# Altium schematic symbol library Componentes_base.SchLib: 431 symbols (part 2 of 12)
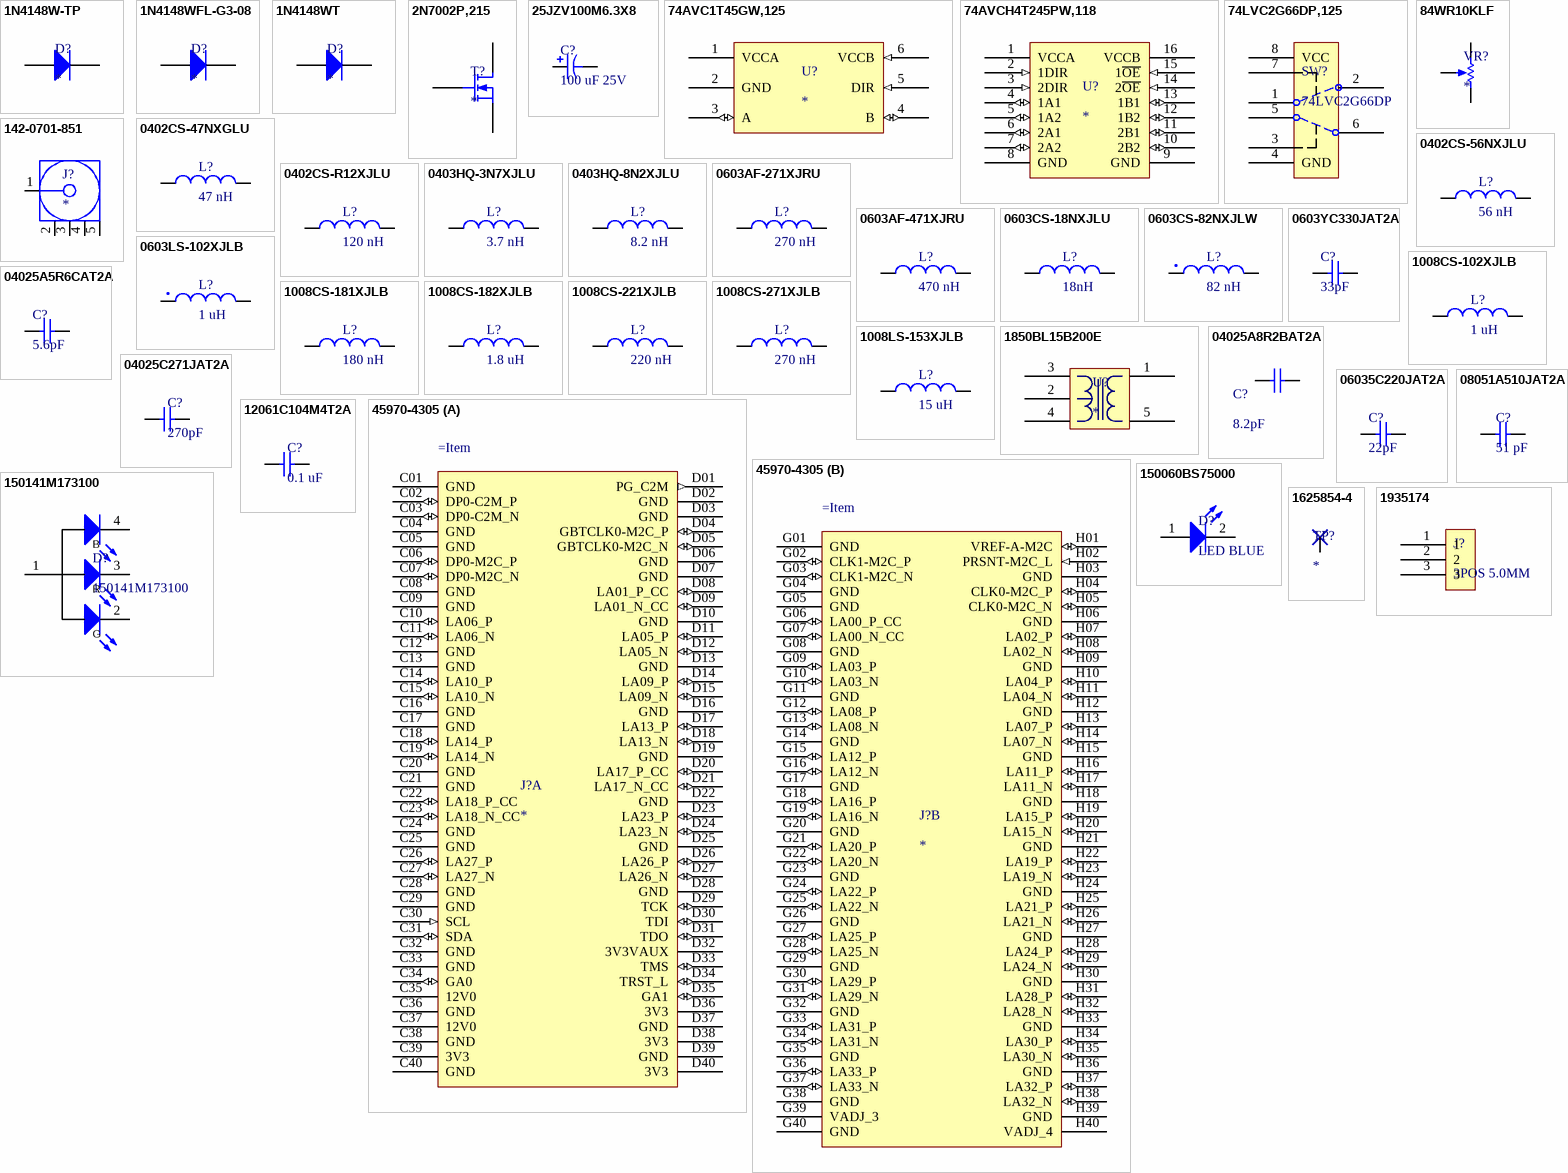
[diagram p15: symbols 1N4148W-TP to 1935174]

## 150141M173100
designator D?
LED RGB CLEAR 1411 SMD; Manufacturer: Wurth Electronics Inc.; Color: Red, Green, Blue (RGB); Configuration: Common Anode; Lens Color: Colorless; Millicandela Rating: 270mcd Red, 950mcd Green, 230mcd Blue; Lens Style/Size: Round with Flat Top, 2.40mm; Voltage - Forward (Vf) (Typ): 2V Red, 3.2V Green, 3.2V Blue; Current - Test: 20mA Red, 20mA Green, 20mA Blue; Viewing Angle: 120°; Wavelength - Dominant: 625nm Red, 520nm Green, 470nm Blue; Wavelength - Peak: 635nm Red, 515nm Green, 465nm Blue; Supplier 1: Digi-Key; Manufacturer Part Number: 150141M173100; RoHS: RoHS Compliant; Category: Optoelectronics; Stock 1: 7809; Pricing 1: 1=0.4, 100=0.3462, 500=0.2867 (EUR); Packaging: Cut Tape (CT); Part Status: Active; Lens Transparency: Clear; Mounting Type: Surface Mount; Features: -; Package / Case: 1411 (3528 Metric); Supplier Device Package: 3528; Size / Dimension: 3.50mm L x 2.80mm W; Height (Max): 2.10mm; ComponentLink1URL: http://katalog.we-online.de/led/datasheet/150141M173100.pdf; ComponentLink1Description: http://katalog.we-online.de/led/datasheet/150141M173100.pdf; Supplier Part Number 1: 732-4998-1-ND
footprint DFN270P320X210-4N (DFN, 4-Leads, Body 2,80x3,20mm, Pitch 2,70mm, IPC Medium Density)
pins: 1 A, 2 C, 3 C, 4 C
text: B; R; G

## 1625854-4
designator TP?
1206 PROBE PAD; Manufacturer: TE Connectivity AMP Connectors; Manufacturer Part Number: 1625854-4; Brand: TE Connectivity / Holsworthy; Supplier 1: Digi-Key; RoHS: RoHS Compliant; Category: Test and Measurement; Stock 1: 5106; Pricing 1: 1=0.19, 25=0.1696, 50=0.1516, 100=0.1338, 250=0.11776, 500=0.1008 (EUR); Packaging: Cut Tape (CT); Type: PC Test Point; Terminal: 0.126" x 0.063" x 0.079" (3.20mm x 1.60mm x 2.00mm); Mounting Type: Surface Mount; Material: -; Color: Natural; ComponentLink1URL: http://www.te.com/commerce/DocumentDelivery/DDEController?Action=srchrtrv&DocNm=1773266&DocType=DS&DocLang=English; ComponentLink1Description: http://www.te.com/commerce/DocumentDelivery/DDEController?Action=srchrtrv&DocNm=1773266&DocType=DS&DocLang=English; Supplier 2: Mouser; Stock 2: 0; Pricing 2: 1=0.202, 25=0.182, 50=0.163, 100=0.144, 250=0.127, 500=0.108, 2000=0.108 (EUR); Package/Case: 1206 (3216 metric); Series: RC; Termination Style: SMD/SMT; Case Code - in: 1206; Case Code - mm: 3216; Standard Pack Qty: 2000; RoHS - Mouser: Y; Minimum Order Quantity: 1; Reeling: True; ComponentLink2URL: http://www.mouser.com/ds/2/418/NG_DS_1773266_A-732548.pdf; ComponentLink2Description: http://www.mouser.com/ds/2/418/NG_DS_1773266_A-732548.pdf; Supplier Part Number 1: A106146CT-ND; Supplier Part Number 2: 279-RCW-0C
footprint TESTPOINT 1206 (1206 TEST POINT)
pins: 1

## 1935174
designator J?, comment 3POS 5.0MM
TERM BLOCK PCB 3POS 5.0MM GREEN; Manufacturer: Phoenix Contact; Manufacturer Part Number: 1935174; AWG size: 26 - 14; Connection cross-section: 2.5mm²; Grid pitch: 5mm; Nominal current: 16A; Number of contacts: 3; Specification: Screw connection; Supplier 1: Digi-Key; Stock 1: 36318; Pricing 1: 1=0.58, 10=0.552, 50=0.528, 100=0.5136, 250=0.48, 500=0.4416, 1000=0.408 (USD); Colour: Green; Type: PT 1,5/ 3-5,0-H; Supplier Part Number 1: 277-1578-ND
footprint 1935174
pins: 1, 2, 3

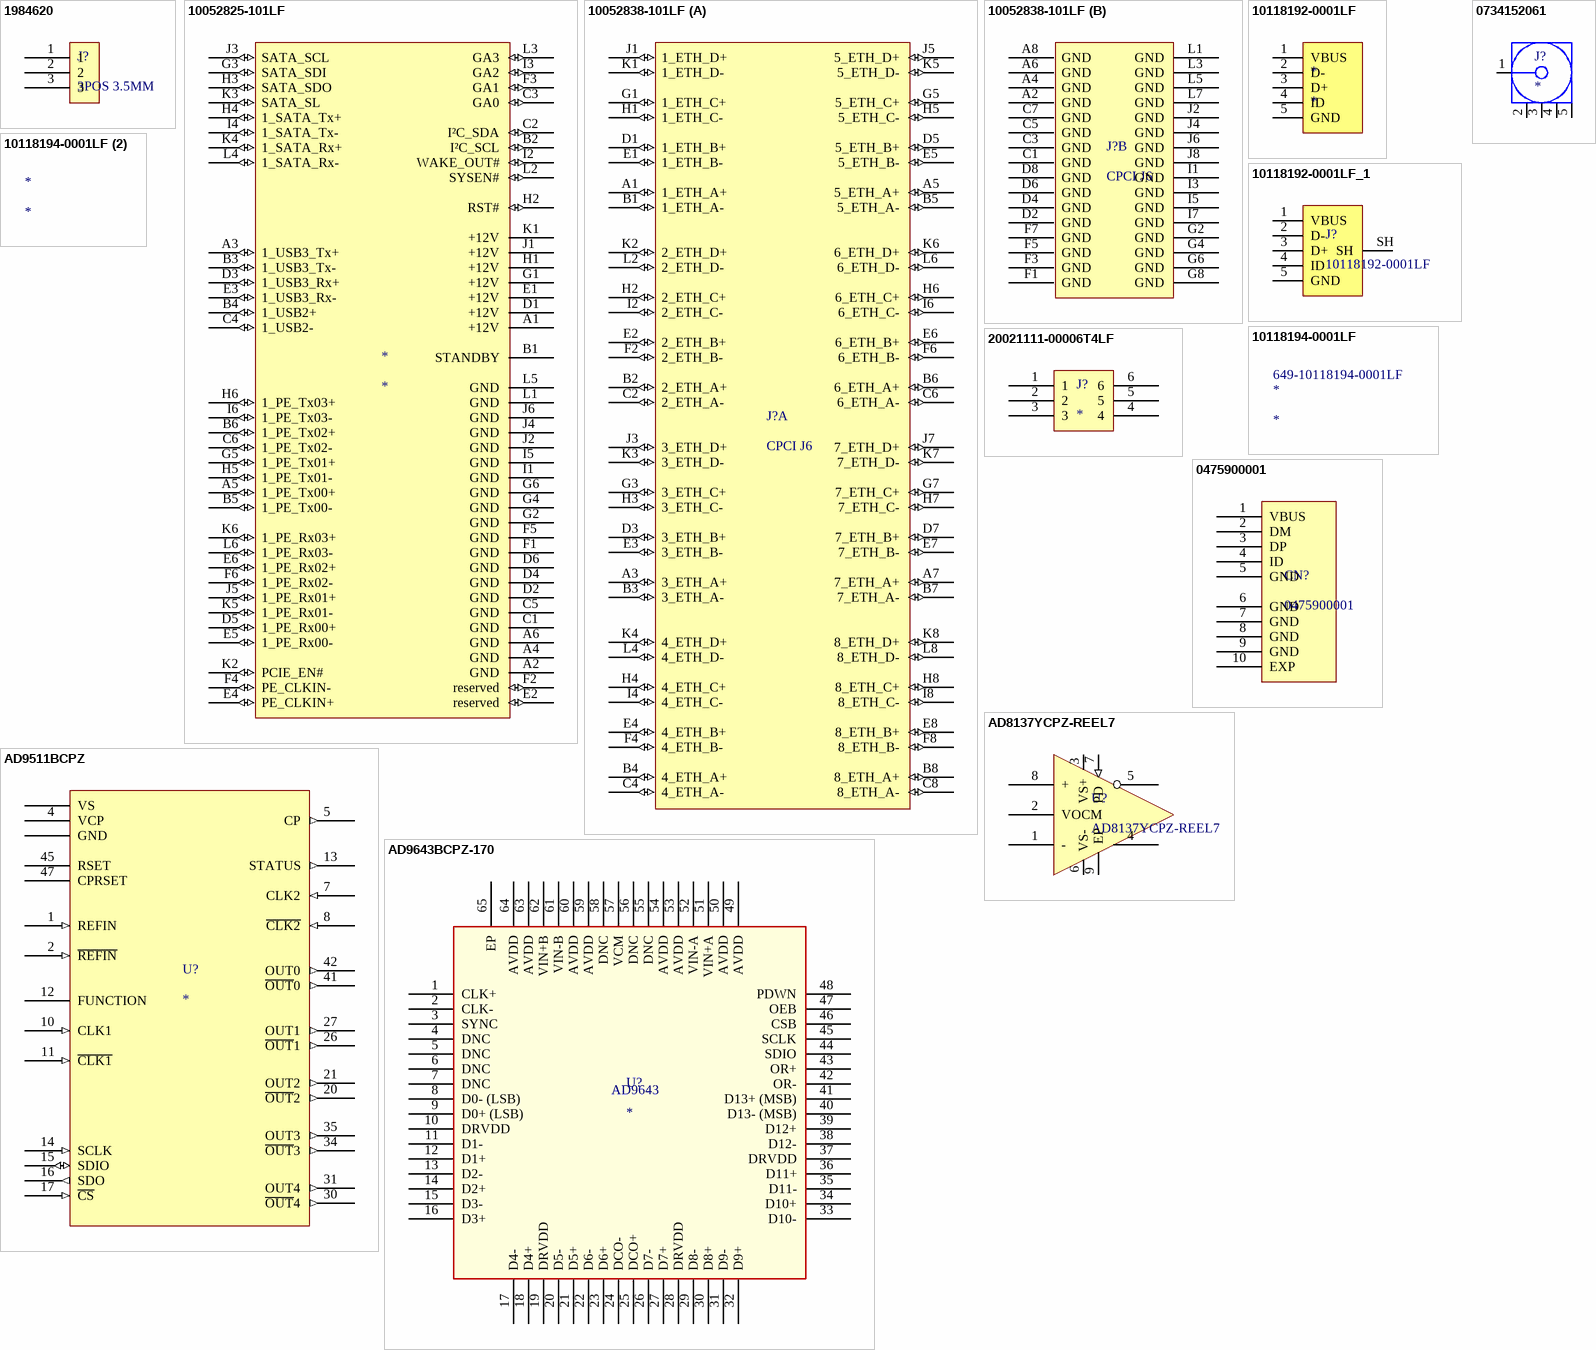
[diagram p1: symbols 1984620 to AD9643BCPZ-170]

## 1984620
designator J?, comment 3POS 3.5MM
CONN TERM BLOCK T/H 3POS 3.5MM; Manufacturer: Phoenix Contact; Manufacturer Part Number: 1984620; CS: 3.50 mm; Pins per row: 3; Stripping length (max.): 5.00 mm; Connection: Screw terminal, Print; Cross section (flexible) (min.): 0.20 mm²; Cross section (inflexible) (min.): 0.14 mm²; Cross section (flexible) (max.): 1.50 mm²; AWG (min.): 26; Connector orientation: Parallel (to the PCB); AWG max.: 16; Wire protection: Yes; Actuation direction: Perpendicular (to the PCB); Nominal current: 17.5 A; Content: 250 pc(s); Nominal voltage: 200 V; Supplier 1: Digi-Key; Stock 1: 15230; Pricing 1: 1=0.68, 10=0.656, 50=0.627, 100=0.6099, 250=0.57, 500=0.5244, 1000=0.4845 (USD); Category: Screw terminal; Features: + wire protector; Number of pins: 3; Series: PT; Cross section (inflexible) (max.): 1.50 mm²; Contact material: Tin plated; Colour: Green; Industrial packaging: Yes; Height: 10.50 mm; Width: 13.70 mm; Manufacturer part #: 1984620; Type: PT 1,5/ 3-3,5-H; Length: 7.60 mm; Supplier Part Number 1: 277-1722-ND
footprint 1984620
pins: 1, 2, 3

## 10052825-101LF
designator *
High Speed/Modular Connectors VS AIRMAX, R/A HDR 72POS, PRESS-FIT; Manufacturer: FCI; Manufacturer Part Number: 10052825-101LF; Mounting Angle: Right; Number of Positions: 72 Position; Pitch: 2 mm; Supplier 1: Mouser; RoHS: RoHS Compliant; Category: High Speed/Modular Connectors; Stock 1: 258; Pricing 1: 1=10.41, 10=9.96, 25=9.06, 50=8.60, 100=8.38, 250=7.33, 500=6.88, 1000=6.08 (EUR); Contact Plating: Gold; Housing Material: Thermoplastic; Packaging: Tube; Product: Headers; Series: AirMax VS; Termination Style: Through Hole; Brand: FCI; Contact Material: Copper Alloy; Standard Pack Qty: 240; Tradename: AIRMAX; RoHS - Mouser: Y; Minimum Order Quantity: 1; Reeling: False; ComponentLink1URL: http://www.mouser.com/ds/2/154/gs-12-239-532901.pdf; ComponentLink1Description: http://www.mouser.com/ds/2/154/gs-12-239-532901.pdf; Supplier Part Number 1: 649-10052825-101LF
footprint 10052825-101LF (FCI AriMax Press-Fit connector 4-Wall CPCI type A, P1)
pins: A1 +12V (power), A2 GND (power), A3 1_USB3_Tx+ (io), A4 GND (power), A5 1_PE_Tx00+ (io), A6 GND (power), B1 STANDBY (power), B2 I²C_SCL (io), B3 1_USB3_Tx- (io), B4 1_USB2+ (io), B5 1_PE_Tx00- (io), B6 1_PE_Tx02+ (io), C1 GND (power), C2 I²C_SDA (io), C3 GA0 (io), C4 1_USB2- (io), C5 GND (power), C6 1_PE_Tx02- (io), D1 +12V (power), D2 GND (power), D3 1_USB3_Rx+ (io), D4 GND (power), D5 1_PE_Rx00+ (io), D6 GND (power), E1 +12V (power), E2 reserved (io), E3 1_USB3_Rx- (io), E4 PE_CLKIN+ (io), E5 1_PE_Rx00- (io), E6 1_PE_Rx02+ (io), F1 GND (power), F2 reserved (io), F3 GA1 (io), F4 PE_CLKIN- (io), F5 GND (power), F6 1_PE_Rx02- (io), G1 +12V (power), G2 GND (power), G3 SATA_SDI (io), G4 GND (power), G5 1_PE_Tx01+ (io), G6 GND (power), H1 +12V (power), H2 RST# (io), H3 SATA_SDO (io), H4 1_SATA_Tx+ (io), H5 1_PE_Tx01- (io), H6 1_PE_Tx03+ (io), I1 GND (power), I2 WAKE_OUT# (io), I3 GA2 (io), I4 1_SATA_Tx- (io), I5 GND (power), I6 1_PE_Tx03- (io), J1 +12V (power), J2 GND (power), J3 SATA_SCL (io), J4 GND (power), J5 1_PE_Rx01+ (io), J6 GND (power), K1 +12V (power), K2 PCIE_EN# (io), K3 SATA_SL (io), K4 1_SATA_Rx+ (io), K5 1_PE_Rx01- (io), K6 1_PE_Rx03+ (io), L1 GND (power), L2 SYSEN# (io), L3 GA3 (io), L4 1_SATA_Rx- (io), L5 GND (power), L6 1_PE_Rx03- (io)

## 10052838-101LF
designator J?, comment CPCI J6
High Speed/Modular Connectors VS AIRMAX, R/A HDR 96POS, PRESS-FIT; Manufacturer: FCI; Manufacturer Part Number: 10052838-101LF; Mounting Angle: Right; Number of Positions: 96 Position; Pitch: 2 mm; Supplier 1: Mouser; RoHS: RoHS Compliant; Category: High Speed/Modular Connectors; Stock 1: 120; Pricing 1: 1=14.56, 10=13.23, 25=12.90, 50=11.91, 100=11.25, 250=10.06, 500=9.40, 1000=8.62 (EUR); Contact Plating: Gold; Housing Material: Thermoplastic; Packaging: Tube; Product: Headers; Series: AirMax VS; Termination Style: Through Hole; Brand: FCI; Contact Material: Copper Alloy; Standard Pack Qty: 180; Tradename: AIRMAX; RoHS - Mouser: Y; Minimum Order Quantity: 1; Reeling: False; ComponentLink1URL: http://www.mouser.com/ds/2/154/gs-12-239-532901.pdf; ComponentLink1Description: http://www.mouser.com/ds/2/154/gs-12-239-532901.pdf; Supplier Part Number 1: 649-10052838-101LF
footprint 10052838-101LF (FCI AriMax Press-Fit connector 4-Wall CPCI type D, P6)
part A pins: A1 1_ETH_A+ (io), A3 3_ETH_A+ (io), A5 5_ETH_A+ (io), A7 7_ETH_A+ (io), B1 1_ETH_A- (io), B2 2_ETH_A+ (io), B3 3_ETH_A- (io), B4 4_ETH_A+ (io), B5 5_ETH_A- (io), B6 6_ETH_A+ (io), B7 7_ETH_A- (io), B8 8_ETH_A+ (io), C2 2_ETH_A- (io), C4 4_ETH_A- (io), C6 6_ETH_A- (io), C8 8_ETH_A- (io), D1 1_ETH_B+ (io), D3 3_ETH_B+ (io), D5 5_ETH_B+ (io), D7 7_ETH_B+ (io), E1 1_ETH_B- (io), E2 2_ETH_B+ (io), E3 3_ETH_B- (io), E4 4_ETH_B+ (io), E5 5_ETH_B- (io), E6 6_ETH_B+ (io), E7 7_ETH_B- (io), E8 8_ETH_B+ (io), F2 2_ETH_B- (io), F4 4_ETH_B- (io), F6 6_ETH_B- (io), F8 8_ETH_B- (io), G1 1_ETH_C+ (io), G3 3_ETH_C+ (io), G5 5_ETH_C+ (io), G7 7_ETH_C+ (io), H1 1_ETH_C- (io), H2 2_ETH_C+ (io), H3 3_ETH_C- (io), H4 4_ETH_C+ (io), H5 5_ETH_C- (io), H6 6_ETH_C+ (io), H7 7_ETH_C- (io), H8 8_ETH_C+ (io), I2 2_ETH_C- (io), I4 4_ETH_C- (io), I6 6_ETH_C- (io), I8 8_ETH_C- (io), J1 1_ETH_D+ (io), J3 3_ETH_D+ (io), J5 5_ETH_D+ (io), J7 7_ETH_D+ (io), K1 1_ETH_D- (io), K2 2_ETH_D+ (io), K3 3_ETH_D- (io), K4 4_ETH_D+ (io), K5 5_ETH_D- (io), K6 6_ETH_D+ (io), K7 7_ETH_D- (io), K8 8_ETH_D+ (io), L2 2_ETH_D- (io), L4 4_ETH_D- (io), L6 6_ETH_D- (io), L8 8_ETH_D- (io)
part B pins: A2 GND (power), A4 GND (power), A6 GND (power), A8 GND (power), C1 GND (power), C3 GND (power), C5 GND (power), C7 GND (power), D2 GND (power), D4 GND (power), D6 GND (power), D8 GND (power), F1 GND (power), F3 GND (power), F5 GND (power), F7 GND (power), G2 GND (power), G4 GND (power), G6 GND (power), G8 GND (power), I1 GND (power), I3 GND (power), I5 GND (power), I7 GND (power), J2 GND (power), J4 GND (power), J6 GND (power), J8 GND (power), L1 GND (power), L3 GND (power), L5 GND (power), L7 GND (power)

## 10118192-0001LF
designator *
USB Connectors 5P MICRO USB TYPE B RECEPTACLE; Manufacturer: FCI; Manufacturer Part Number: 10118192-0001LF; Current Rating: 1.8 A; Gender: Female; Mounting Angle: Right; Number of Contacts: 5 Contact; Insulation Resistance: 1000 MOhms; Supplier 1: Mouser; RoHS: RoHS Compliant; Category: USB Connectors; Stock 1: 31214; Pricing 1: 1=0.429, 10=0.295, 100=0.254, 500=0.242, 1400=0.184, 2800=0.168, 4200=0.160 (EUR); Color: Black; Connector Type: Micro USB Type B Receptacle; Contact Plating: Gold; Operating Temperature Range: - 55 C to + 85 C; Packaging: Reel; Product: Micro USB Type B Connectors; Termination Style: SMD/SMT; Brand: FCI; Contact Material: Copper Alloy; Flammability Rating: UL 94 V-0; Standard: USB 2.0; Standard Pack Qty: 1400; RoHS - Mouser: Y; Minimum Order Quantity: 1; Reeling: True; ComponentLink1URL: http://www.mouser.com/ds/2/154/10118192-793027.pdf; ComponentLink1Description: http://www.mouser.com/ds/2/154/10118192-793027.pdf; Supplier Part Number 1: 649-10118192-0001LF
pins: 1 VBUS (power), 2 D- (power), 3 D+ (power), 4 ID (power), 5 GND (power)

## 10118192-0001LF_1
designator J?, comment 10118192-0001LF
AMPHENOL FCI - 10118192-0001LF - MICRO USB, 2.0 TYPE B, RCPT, SMT; Supplier 1: Farnell; Manufacturer: AMPHENOL FCI; Manufacturer Part Number: 10118192-0001LF; RoHS: YES; Stock 1: 14871; Pricing 1: 1=0,411, 10=0,396, 100=0,278, 500=0,239, 1000=0,197, 2500=0,182, 5000=0,169 (EUR); ComponentLink1URL: http://www.farnell.com/cad/1935767.pdf; ComponentLink1Description: http://www.farnell.com/cad/1935767.pdf; Supplier Part Number 1: 2506568
footprint 10118192-0001LF
pins: 1 VBUS (power), 2 D- (power), 3 D+ (power), 4 ID (power), 5 GND (power), SH (power)

## 10118194-0001LF
designator *  Supplier Part Number 1: 649-10118194-0001LF
USB Connectors 5P MICRO USB TYPE B RCPT W/ REAR PEGS; Manufacturer: FCI; Manufacturer Part Number: 10118194-0001LF; Connector Type: Micro USB Type B receptacle; Current Rating: 1.8 A; Gender: Female; Mounting Angle: Right; Number of Contacts: 5 Contact; Insulation Resistance: 1000 MOhms; Supplier 1: Mouser; RoHS: RoHS Compliant; Category: USB Connectors; Stock 1: 33577; Pricing 1: 1=0.429, 10=0.295, 100=0.254, 500=0.242, 1200=0.184, 2400=0.168, 4800=0.160 (EUR); Color: Black; Contact Plating: Gold; Operating Temperature Range: - 55 C to + 85 C; Packaging: Reel; Product: Micro USB Type B Connectors; Termination Style: SMD/SMT; Brand: FCI; Contact Material: Copper Alloy; Flammability Rating: UL 94 V-0; Standard: USB 2.0; Standard Pack Qty: 1200; RoHS - Mouser: Y; Minimum Order Quantity: 1; Reeling: True; ComponentLink1URL: http://www.mouser.com/ds/2/154/10118194AC-197217.pdf; ComponentLink1Description: http://www.mouser.com/ds/2/154/10118194AC-197217.pdf

## 10118194-0001LF (2)
designator *
CONN USB MICRO B RECPT SMT R/A; Manufacturer: Amphenol FCI; Manufacturer Part Number: 10118194-0001LF; Connector Type: USB - micro B; Number of Contacts: 5; Gender: Receptacle; Specifications: USB 2.0; Number of Ports: 1; Current Rating: 1.8A per Contact; Voltage - Rated: 100VAC; Mating Cycles: 10000; Shielding: Shielded; Material Flammability Rating: UL94 V-0; Supplier 1: Digi-Key; RoHS: RoHS Compliant; Category: Connectors, Interconnects; Stock 1: 172899; Pricing 1: 1=0.38, 10=0.362, 25=0.3104, 50=0.2638, 100=0.2535, 250=0.22764, 500=0.2173 (EUR); Packaging: Cut Tape (CT); Part Status: Active; Mounting Type: Surface Mount, Right Angle; Through Hole; Mounting Feature: Horizontal; Termination: Solder; Features: Solder Retention; Ingress Protection: -; Operating Temperature: -30°C ~ 80°C; Contact Finish: Gold; Shell/Shielding Material: Steel, Stainless; Insulation Color: Black; ComponentLink1URL: http://portal.fciconnect.com/Comergent//fci/drawing/10118194.pdf; ComponentLink1Description: http://portal.fciconnect.com/Comergent//fci/drawing/10118194.pdf; Supplier Part Number 1: 609-4618-1-ND

## 20021111-00006T4LF
designator J?
Headers & Wire Housings 6P HDR UNSHRD VERT 1.27x1.27MM BTB TH; Manufacturer: FCI; Manufacturer Part Number: 20021111-00006T4LF; Current Rating: 6 A; Mounting Angle: Vertical; Number of Positions: 6; Voltage Rating: 125 V; Pitch: 1.27 mm; Mating Post Length: 3.05 mm; Connector Type: Header, Unshrouded; Number of Positions Loaded: All; Row Spacing: 0.050" (1.27mm); Supplier 1: Mouser; Supplier Part Number 1: 649-221111-00006T4LF; RoHS: RoHS Compliant; Category: Headers & Wire Housings; Stock 1: 1388; Pricing 1: 1=0.381, 10=0.363, 100=0.228, 500=0.218, 1000=0.182, 2500=0.166, 5000=0.156, 10000=0.145, 25000=0.135 (EUR); Contact Plating: Gold; Housing Material: Plastic; Number of Rows: 2; Packaging: Tube; Series: Minitek; Type: Unshrouded; Brand: FCI; Contact Material: Nickel; Product Category: Minitek II 2.0mm Connectors; Product Type: Headers; Standard Pack Qty: 153; Termination Post Length: 2.3 mm; RoHS - Mouser: Y; Minimum Order Quantity: 1; Reeling: False; ComponentLink1URL: http://portal.fciconnect.com/Comergent//fci/drawing/20021111.pdf; ComponentLink1Description: http://portal.fciconnect.com/Comergent//fci/drawing/20021111.pdf; Supplier 2: Digi-Key; Supplier Part Number 2: 609-3710-ND; Stock 2: 5617; Pricing 2: 1=0.39, 10=0.37, 100=0.2587, 250=0.23228, 500=0.22174, 1000=0.18478, 2500=0.16894, 5000=0.15838, 10000=0.14782 (EUR); Contact Type: Male Pin; Contact Mating Length: 0.120" (3.05mm); Mounting Type: Through Hole; Termination: Solder; Fastening Type: -; Features: -; Contact Finish: Gold; Contact Finish Thickness: 10µin (0.25µm); Color: Black
footprint 6PINHEADER 1.27
pins: 1, 2, 3, 4, 5, 6

## 0475900001
designator CN?
CONN RCPT MICRO USB AB R/A SMD; Manufacturer: Molex, LLC; Connector Type: USB - micro AB; Number of Contacts: 5; Gender: Receptacle; Number of Ports: 1; Current Rating: 1A, 1.8A; Voltage - Rated: 30VAC; Mating Cycles: 10000; Shielding: Shielded; Material Flammability Rating: UL94 V-0; Supplier 1: Digi-Key; Manufacturer Part Number: 0475900001; RoHS: RoHS Compliant; Category: Connectors, Interconnects; Stock 1: 19870; Pricing 1: 1=0.71, 10=0.67, 25=0.6032, 50=0.536, 100=0.5137, 250=0.46908, 500=0.44676 (EUR); Packaging: Cut Tape (CT); Part Status: Active; Specifications: -; Mounting Type: Surface Mount, Right Angle; Through Hole; Mounting Feature: Horizontal; Termination: Solder; Features: Pick and Place, Solder Retention; Ingress Protection: -; Operating Temperature: -35°C ~ 85°C; Contact Finish: Gold; Shell/Shielding Material: Steel, Stainless; Insulation Color: Black; ComponentLink1URL: http://www.molex.com/pdm_docs/sd/475900001_sd.pdf; ComponentLink1Description: http://www.molex.com/pdm_docs/sd/475900001_sd.pdf; Supplier Part Number 1: WM17144CT-ND
pins: 1 VBUS, 2 DM, 3 DP, 4 ID, 5 GND, 6 GND, 7 GND, 8 GND, 9 GND, 10 EXP

## 0734152061
designator J?
CONN MMCX JACK STR 50 OHM SMD; Manufacturer: Molex, LLC; Manufacturer Part Number: 0734152061; Connector Type: Jack, Female Socket; Contact Termination: Solder; Impedance: 50 Ohm; Frequency - Max: 6GHz; Body Material: Brass; Body Finish: Gold; Center Contact Material: Beryllium Copper; Dielectric Material: Polytetrafluoroethylene (PTFE); Body Style: Straight; Cable Type: RD-316; Brand: Molex; Maximum Frequency: 6 GHz; Supplier 1: Digi-Key; RoHS: RoHS Compliant; Category: Connectors, Interconnects; Stock 1: 3458; Pricing 1: 1=2.06, 10=1.867, 50=1.6766, 100=1.6004, 250=1.44804, 500=1.33372, 1000=1.14319 (EUR); Packaging: Bulk; Connector Style: MMCX; Shield Termination: Solder; Mounting Type: Surface Mount; Cable Group: -; Fastening Type: Snap-On; Features: -; Housing Color: Gold; Ingress Protection: -; Center Contact Plating: Gold; Voltage Rating: -; Operating Temperature: -55°C ~ 165°C; ComponentLink1URL: http://www.molex.com/pdm_docs/sd/734152061_sd.pdf; ComponentLink1Description: http://www.molex.com/pdm_docs/sd/734152061_sd.pdf; Supplier 2: Mouser; Stock 2: 1129; Pricing 2: 1=2.47, 10=2.24, 25=2.17, 50=2.01, 100=1.83, 250=1.59, 500=1.46, 1000=1.33, 1500=1.07 (EUR); Contact Plating: Gold; Gender: Jack; Orientation: Vertical; Product: PCB Receptacles; Series: 73415; RF Series: MMCX; Product Category: MMCX Connectors; Standard Pack Qty: 1600; RoHS - Mouser: E; Minimum Order Quantity: 1; Reeling: False; ComponentLink2URL: http://www.mouser.com/ds/2/276/0734152061_RF_COAX_CONNECTORS-229955.pdf; ComponentLink2Description: http://www.mouser.com/ds/2/276/0734152061_RF_COAX_CONNECTORS-229955.pdf; Supplier Part Number 1: WM5560-ND; Supplier Part Number 2: 538-73415-2061
footprint MMCX_VERT_SMD (MMCX RF CONNECTOR VERTICAL SMD)
pins: 1 Signal (io) "Signal Pin", 2 GND (power), 3 GND (power), 4 GND (power), 5 GND (power)

## AD8137YCPZ-REEL7
designator U?
IC OPAMP DIFF 110MHZ RRO 8LFCSP; Manufacturer: Analog Devices Inc.; Amplifier Type: Differential; Number of Circuits: 1; Output Type: Differential, Rail-to-Rail; Slew Rate: 450 V/µs; Current - Input Bias: 500nA; Voltage - Input Offset: 700µV; Current - Supply: 3.2mA; Current - Output / Channel: 20mA; Voltage - Supply, Single/Dual (±): 2.7 V ~ 12 V, ± 2.7 V ~ 6 V; Supplier 1: Digi-Key; Manufacturer Part Number: AD8137YCPZ-REEL7; RoHS: RoHS Compliant; Category: Integrated Circuits (ICs); Stock 1: 0; Pricing 1: 1=2.74, 10=2.454, 100=2.0111, 500=1.712 (EUR); Packaging: Cut Tape (CT); Part Status: Active; Gain Bandwidth Product: -; -3db Bandwidth: 110MHz; Operating Temperature: -40°C ~ 125°C; Mounting Type: Surface Mount; Package / Case: 8-WFDFN Exposed Pad, CSP; Supplier Device Package: 8-LFCSP-WD (3x3); ComponentLink1URL: http://www.analog.com/media/en/technical-documentation/data-sheets/AD8137.pdf; ComponentLink1Description: http://www.analog.com/media/en/technical-documentation/data-sheets/AD8137.pdf; Supplier Part Number 1: AD8137YCPZ-REEL7CT-ND
footprint SON127P600-8N-LFCSP_WD
pins: 1 -, 2 VOCM, 3 VS+ (power), 4 +OUT, 5 -OUT, 6 VS- (power), 7 PD (in), 8 +, 9 EP (power)

## AD9511BCPZ
designator U?
Clock Drivers & Distribution 1.2GHz PLL Core Delay Adj 5 Outputs; Manufacturer: Analog Devices; Manufacturer Part Number: AD9511BCPZ; Output Type: LVPECL; Max Output Freq: 1200 MHz; Multiply/Divide Factor: 1:5; Product Status: New at Mouser; Number of Circuits: 1; Ratio - Input:Output: 2:5; Differential - Input:Output: Yes/Yes; Output: CMOS, LVDS, LVPECL; Voltage - Supply: 3.135 V ~ 3.465 V; Supplier 1: Mouser; Supplier Part Number 1: 584-AD9511BCPZ; RoHS: RoHS Compliant; Category: Clock Drivers & Distribution; Stock 1: 158; Pricing 1: 1=11.55, 5=10.81, 10=10.49, 25=9.71, 50=9.19, 100=8.92, 250=8.13, 500=7.61, 1000=7.00 (EUR); Package/Case: LFCSP-48; Packaging: Tray; Series: AD9511; Type: Distribution; Brand: Analog Devices; Mounting Style: SMD/SMT; Standard Pack Qty: 260; RoHS - Mouser: Y; Minimum Order Quantity: 1; Reeling: False; ComponentLink1URL: http://www.mouser.com/ds/2/609/AD9511-279192.pdf; ComponentLink1Description: http://www.mouser.com/ds/2/609/AD9511-279192.pdf; Supplier 2: Digi-Key; Supplier Part Number 2: AD9511BCPZ-ND; Stock 2: 141; Pricing 2: 1=12.4, 10=11.268, 100=9.5777, 250=8.7326, 500=8.16922, 1000=7.49313, 2500=7.21144, 5000=7.11655 (EUR); Input: Clock; Frequency - Max: 1.2GHz; Operating Temperature: -40°C ~ 85°C; Mounting Type: Surface Mount; Package / Case: 48-VFQFN Exposed Pad, CSP; Supplier Device Package: 48-LFCSP-VQ (7x7); ComponentLink2URL: http://www.analog.com/static/imported-files/data_sheets/AD9511.pdf; ComponentLink2Description: http://www.analog.com/static/imported-files/data_sheets/AD9511.pdf
footprint QFN50P700X700X100_HS-49N-ANALOG (QFN, 48-Leads, Body 7,00x7,00mm, Pitch 0,50mm, Thermal Pad 5,10x5,10mm, IPC Medium Density)
pins: 1 REFIN (in), 2 ~{REFIN} (in), 3 VS (power), 4 VCP (power), 5 CP (out), 6 VS (power), 7 CLK2 (in), 8 ~{CLK2} (in), 9 VS (power), 10 CLK1 (in), 11 ~{CLK1} (in), 12 FUNCTION, 13 STATUS (out), 14 SCLK (in), 15 SDIO (io), 16 SDO (out), 17 ~{CS} (in), 18 VS (power), 19 GND (power), 20 ~{OUT}2 (out), 21 OUT2 (out), 22 VS (power), 23 VS (power), 24 GND (power), 25 VS (power), 26 ~{OUT}1 (out), 27 OUT1 (out), 28 VS (power), 29 VS (power), 30 ~{OUT}4 (out), 31 OUT4 (out), 32 VS (power), 33 VS (power), 34 ~{OUT}3 (out), 35 OUT3 (out), 36 VS (power), 37 GND (power), 38 GND (power), 39 VS (power), 40 VS (power), 41 ~{OUT}0 (out), 42 OUT0 (out), 43 GND (power), 44 VS (power), 45 RSET, 46 GND (power), 47 CPRSET, 48 VS (power), 49 GND (power)

## AD9643BCPZ-170
designator U?
IC ADC 14BIT SRL 170MSPS 64LFCSP; Manufacturer: Analog Devices; Manufacturer Part Number: AD9643BCPZ-170; Input Type: Differential; Number of Converters: 2; Architecture: Pipeline; Conversion Rate: 250 MS/s; Interface Type: Parallel, LVDS; Number of Channels: 2 Channel; SNR: 72.2 dB; Maximum Power Dissipation: 785 mW; Operating Supply Voltage: 1.8 V; Voltage Reference: Internal; Product Status: New at Mouser; Number of Bits: 14; Sampling Rate (Per Second): 170M; Data Interface: LVDS, Parallel; Ratio - S/H:ADC: 1:1; Voltage - Supply, Analog: 1.8V; Supplier 1: Mouser; Supplier Part Number 1: 584-AD9643BCPZ-170; RoHS: RoHS Compliant; Category: Analog to Digital Converters - ADC; Stock 1: 21; Pricing 1: 1=92.41, 5=89.53, 10=86.64, 25=82.59, 50=80.85, 100=77.98 (EUR); Package/Case: LFCSP-64; Packaging: Tray; Resolution: 14 bit; Series: AD9643; Brand: Analog Devices; Mounting Style: SMD/SMT; Maximum Operating Temperature: + 85 C; Minimum Operating Temperature: - 40 C; Standard Pack Qty: 260; RoHS - Mouser: Y; Minimum Order Quantity: 1; Reeling: False; ComponentLink1URL: http://www.mouser.com/ds/2/609/AD9643-256326.pdf; ComponentLink1Description: http://www.mouser.com/ds/2/609/AD9643-256326.pdf; Supplier 2: Digi-Key; Supplier Part Number 2: AD9643BCPZ-170-ND; Stock 2: 71; Pricing 2: 1=99.23, 10=93.023, 100=83.7204, 250=80.6196, 500=79.37932, 1000=78.33485 (EUR); Number of Inputs: 2; Configuration: ADC; Number of A/D Converters: 2; Reference Type: Internal; Voltage - Supply, Digital: 1.8V; Features: Simultaneous Sampling; Operating Temperature: -40°C ~ 85°C; Package / Case: 64-VFQFN Exposed Pad, CSP; Supplier Device Package: 64-LFCSP-VQ (9x9); ComponentLink2URL: http://www.analog.com/static/imported-files/data_sheets/AD9643.pdf; ComponentLink2Description: http://www.analog.com/static/imported-files/data_sheets/AD9643.pdf
footprint QFN50P900X900X100_HS-65N (QFN, 64-Leads, Body 9,00x9,00mm, Pitch 0,50mm, Thermal Pad 6,20x6,20mm, IPC Medium Density)
pins: 1 CLK+, 2 CLK-, 3 SYNC, 4 DNC, 5 DNC, 6 DNC, 7 DNC, 8 D0- (LSB), 9 D0+ (LSB), 10 DRVDD, 11 D1-, 12 D1+, 13 D2-, 14 D2+, 15 D3-, 16 D3+, 17 D4-, 18 D4+, 19 DRVDD, 20 D5-, 21 D5+, 22 D6-, 23 D6+, 24 DCO-, 25 DCO+, 26 D7-, 27 D7+, 28 DRVDD, 29 D8-, 30 D8+, 31 D9-, 32 D9+, 33 D10-, 34 D10+, 35 D11-, 36 D11+, 37 DRVDD, 38 D12-, 39 D12+, 40 D13- (MSB), 41 D13+ (MSB), 42 OR-, 43 OR+, 44 SDIO, 45 SCLK, 46 CSB, 47 OEB, 48 PDWN, 49 AVDD, 50 AVDD, 51 VIN+A, 52 VIN-A, 53 AVDD, 54 AVDD, 55 DNC, 56 DNC, 57 VCM, 58 DNC, 59 AVDD, 60 AVDD, 61 VIN-B, 62 VIN+B, 63 AVDD, 64 AVDD, 65 EP

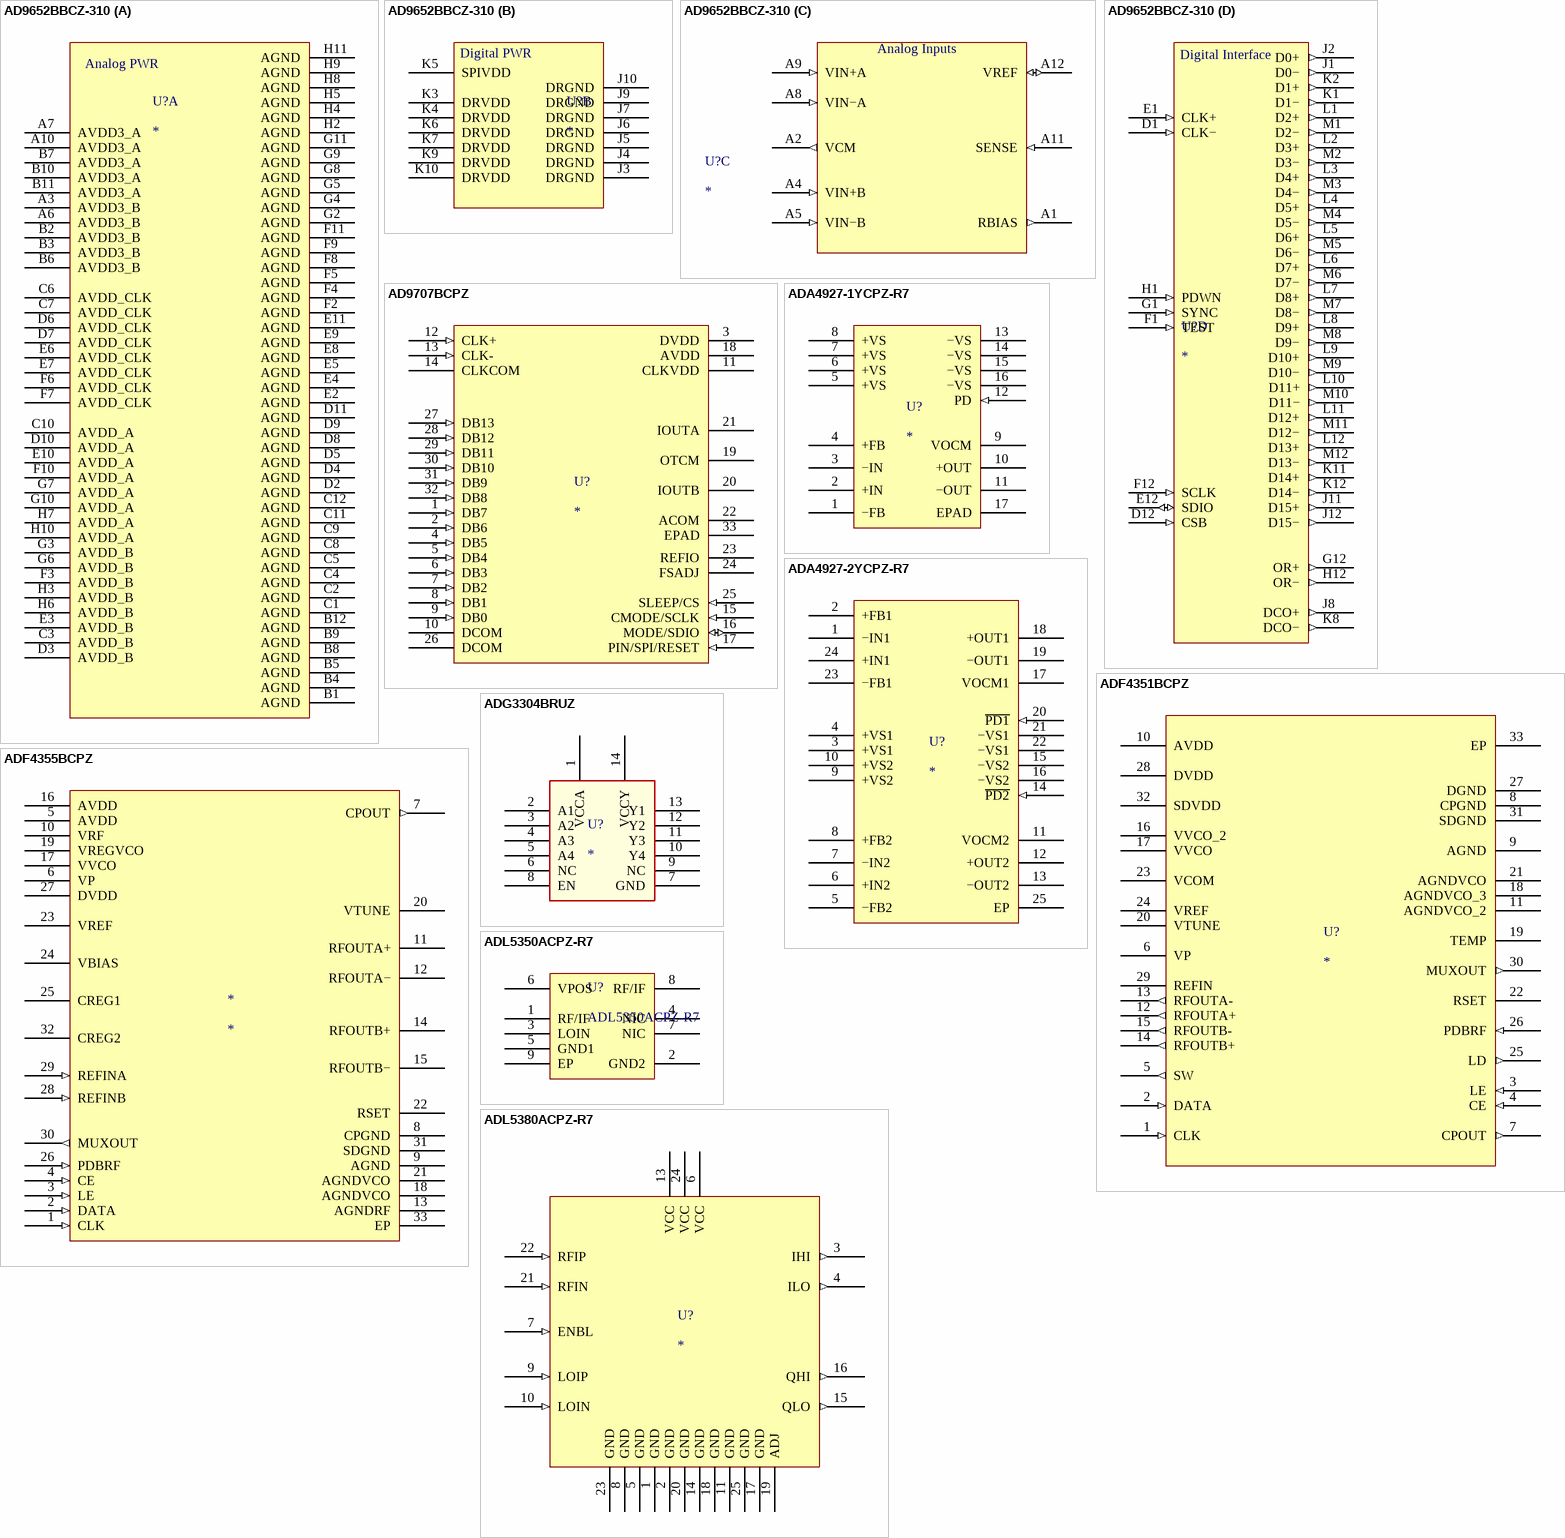
[diagram p2: symbols AD9652BBCZ-310 to ADL5380ACPZ-R7]

## AD9652BBCZ-310
designator U?
Analog to Digital Converters - ADC ADC, DUAL 16 BIT 310 MSPS 3.3/1.8V; Manufacturer: Analog Devices; Manufacturer Part Number: AD9652BBCZ-310; Input Type: Differential; Number of Converters: 2 Converter; Resolution: 16 bit; Sampling Rate: 310 MS/s; Architecture: Pipeline; Interface Type: Serial, 3-Wire, SPI; Number of Channels: 2 Channel; Reference Type: Internal; Development Kit: AD9652-310EBZ; Pd - Power Dissipation: 1 mW; Reference Voltage: 1.25 V; SNR - Signal to Noise Ratio: 75.4 dB; Product Status: New Product; Supplier 1: Mouser; RoHS: RoHS Compliant By Exemption; Category: Analog to Digital Converters - ADC; Stock 1: 15; Pricing 1: 1=273.95 (EUR); Package/Case: BGA-144; Packaging: Tray; Product: Analog to Digital Converters; Series: AD9652; Type: ADC; Brand: Analog Devices; Mounting Style: SMD/SMT; Maximum Operating Temperature: + 85 C; Minimum Operating Temperature: - 40 C; RoHS - Mouser: E; Minimum Order Quantity: 1; Reeling: False; ComponentLink1URL: http://www.mouser.com/ds/2/609/AD9652-347318.pdf; ComponentLink1Description: http://www.mouser.com/ds/2/609/AD9652-347318.pdf; Supplier Part Number 1: 584-AD9652BBCZ-310
footprint BGA144C80P12X12_1000X1000X140 (BGA, 144-Leads, Body 10,00x10,00mmx1,40mm, Pitch 0,80mm)
part A pins: A3 AVDD3_B (power) "3.3 V Analog Power Supply (3.3 V Nominal).", A6 AVDD3_B (power) "3.3 V Analog Power Supply (3.3 V Nominal).", A7 AVDD3_A (power) "3.3 V Analog Power Supply (3.3 V Nominal).", A10 AVDD3_A (power) "3.3 V Analog Power Supply (3.3 V Nominal).", B1 AGND (power) "Power Reference for AVDD3, AVDD_CLK, and AVDD.", B2 AVDD3_B (power) "3.3 V Analog Power Supply (3.3 V Nominal).", B3 AVDD3_B (power) "3.3 V Analog Power Supply (3.3 V Nominal).", B4 AGND (power) "Power Reference for AVDD3, AVDD_CLK, and AVDD.", B5 AGND (power) "Power Reference for AVDD3, AVDD_CLK, and AVDD.", B6 AVDD3_B (power) "3.3 V Analog Power Supply (3.3 V Nominal).", B7 AVDD3_A (power) "3.3 V Analog Power Supply (3.3 V Nominal).", B8 AGND (power) "Power Reference for AVDD3, AVDD_CLK, and AVDD.", B9 AGND (power) "Power Reference for AVDD3, AVDD_CLK, and AVDD.", B10 AVDD3_A (power) "3.3 V Analog Power Supply (3.3 V Nominal).", B11 AVDD3_A (power) "3.3 V Analog Power Supply (3.3 V Nominal).", B12 AGND (power) "Power Reference for AVDD3, AVDD_CLK, and AVDD.", C1 AGND (power) "Power Reference for AVDD3, AVDD_CLK, and AVDD.", C2 AGND (power) "Power Reference for AVDD3, AVDD_CLK, and AVDD.", C3 AVDD_B (power) "1.8 V Analog Power Supply (1.8 V Nominal).", C4 AGND (power) "Power Reference for AVDD3, AVDD_CLK, and AVDD.", C5 AGND (power) "Power Reference for AVDD3, AVDD_CLK, and AVDD.", C6 AVDD_CLK (power) "1.8 V Analog Power Supply for Clock Circuitry (1.8 V Nominal).", C7 AVDD_CLK (power) "1.8 V Analog Power Supply for Clock Circuitry (1.8 V Nominal).", C8 AGND (power) "Power Reference for AVDD3, AVDD_CLK, and AVDD.", C9 AGND (power) "Power Reference for AVDD3, AVDD_CLK, and AVDD.", C10 AVDD_A (power) "1.8 V Analog Power Supply (1.8 V Nominal).", C11 AGND (power) "Power Reference for AVDD3, AVDD_CLK, and AVDD.", C12 AGND (power) "Power Reference for AVDD3, AVDD_CLK, and AVDD.", D2 AGND (power) "Power Reference for AVDD3, AVDD_CLK, and AVDD.", D3 AVDD_B (power) "1.8 V Analog Power Supply (1.8 V Nominal).", D4 AGND (power) "Power Reference for AVDD3, AVDD_CLK, and AVDD.", D5 AGND (power) "Power Reference for AVDD3, AVDD_CLK, and AVDD.", D6 AVDD_CLK (power) "1.8 V Analog Power Supply for Clock Circuitry (1.8 V Nominal).", D7 AVDD_CLK (power) "1.8 V Analog Power Supply for Clock Circuitry (1.8 V Nominal).", D8 AGND (power) "Power Reference for AVDD3, AVDD_CLK, and AVDD.", D9 AGND (power) "Power Reference for AVDD3, AVDD_CLK, and AVDD.", D10 AVDD_A (power) "1.8 V Analog Power Supply (1.8 V Nominal).", D11 AGND (power) "Power Reference for AVDD3, AVDD_CLK, and AVDD.", E2 AGND (power) "Power Reference for AVDD3, AVDD_CLK, and AVDD.", E3 AVDD_B (power) "1.8 V Analog Power Supply (1.8 V Nominal).", E4 AGND (power) "Power Reference for AVDD3, AVDD_CLK, and AVDD.", E5 AGND (power) "Power Reference for AVDD3, AVDD_CLK, and AVDD.", E6 AVDD_CLK (power) "1.8 V Analog Power Supply for Clock Circuitry (1.8 V Nominal).", E7 AVDD_CLK (power) "1.8 V Analog Power Supply for Clock Circuitry (1.8 V Nominal).", E8 AGND (power) "Power Reference for AVDD3, AVDD_CLK, and AVDD.", E9 AGND (power) "Power Reference for AVDD3, AVDD_CLK, and AVDD.", E10 AVDD_A (power) "1.8 V Analog Power Supply (1.8 V Nominal).", E11 AGND (power) "Power Reference for AVDD3, AVDD_CLK, and AVDD.", F2 AGND (power) "Power Reference for AVDD3, AVDD_CLK, and AVDD.", F3 AVDD_B (power) "1.8 V Analog Power Supply (1.8 V Nominal).", F4 AGND (power) "Power Reference for AVDD3, AVDD_CLK, and AVDD.", F5 AGND (power) "Power Reference for AVDD3, AVDD_CLK, and AVDD.", F6 AVDD_CLK (power) "1.8 V Analog Power Supply for Clock Circuitry (1.8 V Nominal).", F7 AVDD_CLK (power) "1.8 V Analog Power Supply for Clock Circuitry (1.8 V Nominal).", F8 AGND (power) "Power Reference for AVDD3, AVDD_CLK, and AVDD.", F9 AGND (power) "Power Reference for AVDD3, AVDD_CLK, and AVDD.", F10 AVDD_A (power) "1.8 V Analog Power Supply (1.8 V Nominal).", F11 AGND (power) "Power Reference for AVDD3, AVDD_CLK, and AVDD.", G2 AGND (power) "Power Reference for AVDD3, AVDD_CLK, and AVDD.", G3 AVDD_B (power) "1.8 V Analog Power Supply (1.8 V Nominal).", G4 AGND (power) "Power Reference for AVDD3, AVDD_CLK, and AVDD.", G5 AGND (power) "Power Reference for AVDD3, AVDD_CLK, and AVDD.", G6 AVDD_B (power) "1.8 V Analog Power Supply (1.8 V Nominal).", G7 AVDD_A (power) "1.8 V Analog Power Supply (1.8 V Nominal).", G8 AGND (power) "Power Reference for AVDD3, AVDD_CLK, and AVDD.", G9 AGND (power) "Power Reference for AVDD3, AVDD_CLK, and AVDD.", G10 AVDD_A (power) "1.8 V Analog Power Supply (1.8 V Nominal).", G11 AGND (power) "Power Reference for AVDD3, AVDD_CLK, and AVDD.", H2 AGND (power) "Power Reference for AVDD3, AVDD_CLK, and AVDD.", H3 AVDD_B (power) "1.8 V Analog Power Supply (1.8 V Nominal).", H4 AGND (power) "Power Reference for AVDD3, AVDD_CLK, and AVDD.", H5 AGND (power) "Power Reference for AVDD3, AVDD_CLK, and AVDD.", H6 AVDD_B (power) "1.8 V Analog Power Supply (1.8 V Nominal).", H7 AVDD_A (power) "1.8 V Analog Power Supply (1.8 V Nominal).", H8 AGND (power) "Power Reference for AVDD3, AVDD_CLK, and AVDD.", H9 AGND (power) "Power Reference for AVDD3, AVDD_CLK, and AVDD.", H10 AVDD_A (power) "1.8 V Analog Power Supply (1.8 V Nominal).", H11 AGND (power) "Power Reference for AVDD3, AVDD_CLK, and AVDD."
part B pins: J3 DRGND (power) "Digital and Output Driver Ground Reference.", J4 DRGND (power) "Digital and Output Driver Ground Reference.", J5 DRGND (power) "Digital and Output Driver Ground Reference.", J6 DRGND (power) "Digital and Output Driver Ground Reference.", J7 DRGND (power) "Digital and Output Driver Ground Reference.", J9 DRGND (power) "Digital and Output Driver Ground Reference.", J10 DRGND (power) "Digital and Output Driver Ground Reference.", K3 DRVDD (power) "Digital Output Driver Supply (1.8 V Nominal).", K4 DRVDD (power) "Digital Output Driver Supply (1.8 V Nominal).", K5 SPIVDD (power) "Serial Interface Logic Voltage Supply (1.8 V Typical, 3.3 V Optional)", K6 DRVDD (power) "Digital Output Driver Supply (1.8 V Nominal).", K7 DRVDD (power) "Digital Output Driver Supply (1.8 V Nominal).", K9 DRVDD (power) "Digital Output Driver Supply (1.8 V Nominal).", K10 DRVDD (power) "Digital Output Driver Supply (1.8 V Nominal)."
part C pins: A1 RBIAS (out) "this pin to ground using a 0.1 μF capacitor.", A2 VCM (out) "Common-Mode Level Bias Output for Analog Inputs. Decouple", A4 VIN+B (in) "Differential Analog Input Pin (+) for Channel B.", A5 VIN−B (in) "Differential Analog Input Pin (−) for Channel B.", A8 VIN−A (in) "Differential Analog Input Pin (−) for Channel A.", A9 VIN+A (in) "Differential Analog Input Pin (+) for Channel A.", A11 SENSE (in) "connected between this pin and Power (AGND).", A12 VREF (io) "External Bias Resister Connection. A 10 kΩ resister must be"
part D pins: D1 CLK− (in) "Reference Mode Selection (See Table 12).", D12  CSB (in) "SPI Chip Select (Active Low). This pin must be pulled high at power-up.", E1 CLK+ (in) "Voltage Reference I/O.", E12 SDIO (io) "SPI Serial Data I/O.", F1 TEST (in) "ADC Clock Input (True).", F12  SCLK (in) "SPI Serial Clock.", G1 SYNC (in) "ADC Clock Input (Complement).", G12 OR+ (out) "Channel A/Channel B LVDS Overrange (True).", H1 PDWN (in) "Pull-Down. Unused digital input, pull to ground through a 50 Ω", H12 OR− (out) "Channel A/Channel B LVDS Overrange (Complement).", J1 D0− (out) "Digital Input Clock Synchronization Pin. Tie low if unused.", J2 D0+ (out) "resistor.", J8 DCO+ (out) "Channel A/Channel B LVDS Data Clock Output (True).", J11 D15+ (out) "Channel A/Channel B LVDS Output Data 15 (True, MSB).", J12 D15− (out) "Channel A/Channel B LVDS Output Data 15 (Complement, MSB).", K1 D1− (out) "depends on the SPI mode and can be configured as power-down or standby (see Register 0x08 in Table 17).", K2 D1+ (out) "Power-Down Input (Active High). The operation of this pin", K8 DCO− (out) "Channel A/Channel B LVDS Data Clock Output (Complement).", K11 D14+ (out) "Channel A/Channel B LVDS Output Data 12 (True).", K12 D14− (out) "Channel A/Channel B LVDS Output Data 12 (Complement).", L1 D2+ (out) "Channel A/Channel B LVDS Output Data 0 (True, LSB).", L2 D3+ (out) "Channel A/Channel B LVDS Output Data 1 (True).", L3 D4+ (out) "Channel A/Channel B LVDS Output Data 2 (True).", L4 D5+ (out) "Channel A/Channel B LVDS Output Data 3 (True).", L5 D6+ (out) "Channel A/Channel B LVDS Output Data 4 (True).", L6 D7+ (out) "Channel A/Channel B LVDS Output Data 5 (True).", L7 D8+ (out) "Channel A/Channel B LVDS Output Data 6 (True).", L8 D9+ (out) "Channel A/Channel B LVDS Output Data 7 (True).", L9 D10+ (out) "Channel A/Channel B LVDS Output Data 8 (True).", L10 D11+ (out) "Channel A/Channel B LVDS Output Data 9 (True).", L11 D12+ (out) "Channel A/Channel B LVDS Output Data 10 (True).", L12 D13+ (out) "Channel A/Channel B LVDS Output Data 11 (True).", M1 D2− (out) "Channel A/Channel B LVDS Output Data 0 (Complement, LSB).", M2 D3− (out) "Channel A/Channel B LVDS Output Data 1 (Complement).", M3 D4− (out) "Channel A/Channel B LVDS Output Data 2 (Complement).", M4 D5− (out) "Channel A/Channel B LVDS Output Data 3 (Complement).", M5 D6− (out) "Channel A/Channel B LVDS Output Data 4 (Complement).", M6 D7− (out) "Channel A/Channel B LVDS Output Data 5 (Complement).", M7 D8− (out) "Channel A/Channel B LVDS Output Data 6 (Complement).", M8 D9− (out) "Channel A/Channel B LVDS Output Data 7 (Complement).", M9 D10− (out) "Channel A/Channel B LVDS Output Data 8 (Complement).", M10 D11− (out) "Channel A/Channel B LVDS Output Data 9 (Complement).", M11 D12− (out) "Channel A/Channel B LVDS Output Data 10 (Complement).", M12 D13− (out) "Channel A/Channel B LVDS Output Data 11 (Complement)."
part A text: Analog PWR
part B text: Digital PWR
part C text: Analog Inputs
part D text: Digital Interface

## AD9707BCPZ
designator U?
Digital to Analog Converters - DAC 14-Bit 175 MSPS; Manufacturer: Analog Devices; Manufacturer Part Number: AD9707BCPZ; Number of Converters: 1; Output Type: Current; Resolution: 14 bit; Architecture: Segment; Interface Type: Parallel; Development Kit: AD9707-DPG2-EBZ; Integral Non-linearity: +/- 6.03 LSB; Maximum Power Dissipation: 57 mW; Settling Time: 11 ns; Supply Voltage - Max: 3.6 V; Supply Voltage - Min: 2.5 V; Voltage Reference: Internal, External; Product Status: New at Mouser; Number of Bits: 14; Data Interface: Serial; Voltage Supply Source: Analog and Digital; Number of Outputs and Type: 2 Current; Sampling Rate (Per Second): 175M; Supplier 1: Mouser; Supplier Part Number 1: 584-AD9707BCPZ; RoHS: RoHS Compliant; Category: Digital to Analog Converters - DAC; Stock 1: 870; Pricing 1: 1=13.04, 5=12.21, 10=11.85, 25=10.96, 50=10.37, 100=10.07, 250=9.19, 500=8.59, 1000=7.90 (EUR); Package/Case: LFCSP-32; Packaging: Tray; Sampling Rate: 175 MSPs; Series: AD9707; Brand: Analog Devices; Mounting Style: SMD/SMT; Maximum Operating Temperature: + 85 C; Minimum Operating Temperature: - 40 C; Standard Pack Qty: 490; RoHS - Mouser: Y; Minimum Order Quantity: 1; Reeling: False; ComponentLink1URL: http://www.mouser.com/ds/2/609/AD9704_9705_9706_9707-246538.pdf; ComponentLink1Description: http://www.mouser.com/ds/2/609/AD9704_9705_9706_9707-246538.pdf; Supplier 2: Digi-Key; Supplier Part Number 2: AD9707BCPZ-ND; Stock 2: 735; Pricing 2: 1=13.99, 10=12.722, 100=10.814, 250=9.8598, 500=9.2237, 1000=8.46035, 2500=8.14229, 5000=8.03516 (EUR); Operating Temperature: -40°C ~ 85°C; Mounting Type: Surface Mount; Package / Case: 32-VFQFN Exposed Pad, CSP; Supplier Device Package: 32-LFCSP-VQ (5x5); ComponentLink2URL: http://www.analog.com/static/imported-files/data_sheets/AD9704_9705_9706_9707.pdf; ComponentLink2Description: http://www.analog.com/static/imported-files/data_sheets/AD9704_9705_9706_9707.pdf
footprint QFN50P500X500X100_HS-33N (QFN, 32-Leads, Body 5,00x5,00mm, Pitch 0,50mm, Thermal Pad 3,10x3,10mm, IPC Medium Density)
pins: 1 DB7 (in), 2 DB6 (in), 3 DVDD (power), 4 DB5 (in), 5 DB4 (in), 6 DB3 (in), 7 DB2 (in), 8 DB1 (in), 9 DB0 (in), 10 DCOM (power), 11 CLKVDD (power), 12 CLK+ (in), 13 CLK- (in), 14 CLKCOM (power), 15 CMODE/SCLK (in), 16 MODE/SDIO (io), 17 PIN/SPI/RESET (in), 18 AVDD (power), 19 OTCM (power), 20 IOUTB, 21 IOUTA, 22 ACOM, 23 REFIO, 24 FSADJ, 25 SLEEP/CS (in), 26 DCOM (power), 27 DB13 (in), 28 DB12 (in), 29 DB11 (in), 30 DB10 (in), 31 DB9 (in), 32 DB8 (in), 33 EPAD

## ADA4927-1YCPZ-R7
designator U?
Differential Amplifiers Ultralow Distortion Current Feedback; Manufacturer: Analog Devices; Manufacturer Part Number: ADA4927-1YCPZ-R7; Number of Channels: 1 Channel; Gain V/V: 0.97 V/V; GBP - Gain Bandwidth Product: 2.3 GHz; Ib - Input Bias Current: 4 uA at 5 V; Maximum Input Resistance: 120 kOhms at 5 V; Operating Supply Current: 22.1 mA; PSRR - Power Supply Rejection Ratio: 70 dB; SR - Slew Rate: 5000 V/us; Supply Voltage - Max: 11 V; Supply Voltage - Min: 4.5 V; Vos - Input Offset Voltage: 1.3 mV at 5 V; Number of Circuits: 1; Slew Rate: 5000 V/µs; -3db Bandwidth: 2.3GHz; Current - Input Bias: 500nA; Voltage - Input Offset: 300µV; Current - Supply: 20mA; Current - Output / Channel: 65mA; Voltage - Supply, Single/Dual (±): 4.5 V ~ 11 V, ±2.25 V ~ 5.5 V; Supplier 1: Mouser; RoHS: RoHS Compliant; Category: Differential Amplifiers; Stock 1: 0; Pricing 1: 1=7.72, 10=6.94, 25=6.33, 50=5.90, 100=5.71, 250=5.25, 500=4.79, 1500=4.38 (EUR); Package/Case: LFCSP-16; Packaging: Reel; Product: Differential Amplifiers; Series: ADA4927-1; Brand: Analog Devices; Mounting Style: SMD/SMT; Maximum Operating Temperature: + 105 C; Minimum Operating Temperature: - 40 C; Standard Pack Qty: 1500; RoHS - Mouser: Y; Minimum Order Quantity: 1; Reeling: True; ComponentLink1URL: http://www.mouser.com/ds/2/609/ADA4927-1_ADA4927-2-246642.pdf; ComponentLink1Description: http://www.mouser.com/ds/2/609/ADA4927-1_ADA4927-2-246642.pdf; Supplier 2: Digi-Key; Stock 2: 5878; Pricing 2: 1=7.87, 10=7.13, 100=5.8773, 500=5.13864 (EUR); Amplifier Type: Current Feedback; Output Type: Differential; Gain Bandwidth Product: -; Operating Temperature: -40°C ~ 105°C; Mounting Type: Surface Mount; Package / Case: 16-VFQFN Exposed Pad, CSP; Supplier Device Package: 16-LFCSP-VQ (3x3); ComponentLink2URL: http://www.analog.com/media/en/technical-documentation/data-sheets/ADA4927-1_ADA4927-2.pdf; ComponentLink2Description: http://www.analog.com/media/en/technical-documentation/data-sheets/ADA4927-1_ADA4927-2.pdf; Supplier Part Number 1: 584-ADA4927-1YCPZ-R7; Supplier Part Number 2: ADA4927-1YCPZ-R7CT-ND
footprint QFN50P300X300X100_HS-17L CP-16-2C (QFN, 16-Leads, Body 3,00x3,00mm, Pitch 0,50mm, Thermal Pad 1,30x1,30mm, IPC High Density)
pins: 1 −FB, 2 +IN, 3 −IN, 4 +FB, 5 +VS (power), 6 +VS (power), 7 +VS (power), 8 +VS (power), 9 VOCM (power), 10 +OUT, 11 −OUT, 12 PD (in), 13 −VS (power), 14 −VS (power), 15 −VS (power), 16 −VS (power), 17 EPAD (power)

## ADA4927-2YCPZ-R7
designator U?
IC OPAMP CFA 2.3GHZ 24LFCSP; Manufacturer: Analog Devices Inc.; Manufacturer Part Number: ADA4927-2YCPZ-R7; Amplifier Type: Current Feedback; Number of Circuits: 2; Output Type: Differential; Slew Rate: 5000 V/µs; Current - Input Bias: 500nA; Voltage - Input Offset: 300µV; Current - Supply: 20mA; Current - Output / Channel: 65mA; Voltage - Supply, Single/Dual (±): 4.5 V ~ 11 V, ±2.25 V ~ 5.5 V; Supplier 1: Digi-Key; RoHS: RoHS Compliant; Category: Integrated Circuits (ICs); Stock 1: 0; Pricing 1: 1=11.57, 10=10.607, 100=8.9546, 500=7.94192 (EUR); Packaging: Cut Tape (CT); Gain Bandwidth Product: -; -3db Bandwidth: 2.3GHz; Operating Temperature: -40°C ~ 105°C; Mounting Type: Surface Mount; Package / Case: 24-VFQFN Exposed Pad, CSP; Supplier Device Package: 24-LFCSP-VQ (4x4); ComponentLink1URL: http://www.analog.com/media/en/technical-documentation/data-sheets/ADA4927-1_ADA4927-2.pdf; ComponentLink1Description: http://www.analog.com/media/en/technical-documentation/data-sheets/ADA4927-1_ADA4927-2.pdf; Supplier Part Number 1: ADA4927-2YCPZ-R7CT-ND
footprint QFN50P400X400X100_HS-25L  CP-24-1 (QFN, 24-Leads, Body 4,00x4,00mm, Pitch 0,50mm, Thermal Pad 2,10x2,10mm, IPC High Density)
pins: 1 −IN1, 2 +FB1, 3 +VS1 (power), 4 +VS1 (power), 5 −FB2, 6 +IN2, 7 −IN2, 8 +FB2, 9 +VS2 (power), 10 +VS2 (power), 11 VOCM2, 12 +OUT2, 13 −OUT2, 14 ~{PD2} (in), 15 −VS2 (power), 16 −VS2 (power), 17 VOCM1, 18 +OUT1, 19 −OUT1, 20 ~{PD1} (in), 21 −VS1 (power), 22 −VS1 (power), 23 −FB1, 24 +IN1, 25 EP (power)

## ADF4351BCPZ
designator U?
Phase Locked Loops - PLL WB Synthesizer w/ Intg VCO; Manufacturer: Analog Devices; Manufacturer Part Number: ADF4351BCPZ; Number of Circuits: 1; Supply Current: 110 mA; Maximum Input Frequency: 4.4 GHz; Minimum Input Frequency: 35 MHz; Operating Supply Voltage: 3.3 V; Output Frequency Range: 35 MHz to 4400 MHz; Supply Voltage - Max: 3.6 V; Supply Voltage - Min: 3 V; Product Status: New at Mouser; PLL: Yes; Input: CMOS, TTL; Output: Clock; Ratio - Input:Output: 1:3; Differential - Input:Output: No/Yes; Frequency - Max: 4.4GHz; Divider/Multiplier: Yes/Yes; Voltage - Supply: 3 V ~ 3.6 V; Supplier 1: Mouser; Supplier Part Number 1: 584-ADF4351BCPZ; RoHS: RoHS Compliant; Category: Phase Locked Loops - PLL; Stock 1: 461; Pricing 1: 1=12.30, 5=11.51, 10=11.18, 25=10.35, 50=9.78, 100=9.51, 250=8.67, 500=8.11, 1000=7.46 (EUR); Package/Case: LFCSP-32; Packaging: Tray; Series: ADF4351; Type: Synthesizer/VCO Integer-N; Brand: Analog Devices; Mounting Style: SMD/SMT; Maximum Operating Temperature: + 85 C; Minimum Operating Temperature: - 40 C; Standard Pack Qty: 490; RoHS - Mouser: Y; Minimum Order Quantity: 1; Reeling: False; ComponentLink1URL: http://www.mouser.com/ds/2/609/ADF4351-279037.pdf; ComponentLink1Description: http://www.mouser.com/ds/2/609/ADF4351-279037.pdf; Supplier 2: Digi-Key; Supplier Part Number 2: ADF4351BCPZ-ND; Stock 2: 2516; Pricing 2: 1=13.21, 10=12.003, 100=10.2029, 250=9.30268, 500=8.70252, 1000=7.9823, 2500=7.68222, 5000=7.58113 (EUR); Operating Temperature: -40°C ~ 85°C; Mounting Type: Surface Mount; Package / Case: 32-VFQFN Exposed Pad, CSP; Supplier Device Package: 32-LFCSP-VQ (5x5); ComponentLink2URL: http://www.analog.com/static/imported-files/data_sheets/ADF4351.pdf; ComponentLink2Description: http://www.analog.com/static/imported-files/data_sheets/ADF4351.pdf
footprint QFN50P500X500X100_HS-33N (QFN, 32-Leads, Body 5,00x5,00mm, Pitch 0,50mm, Thermal Pad 3,10x3,10mm, IPC Medium Density)
pins: 1 CLK (in), 2 DATA (in), 3 LE (in), 4 CE (in), 5 SW (out), 6 VP (power), 7 CPOUT (out), 8 CPGND (power), 9 AGND (power), 10 AVDD (power), 11 AGNDVCO_2 (power), 12 RFOUTA+ (out), 13 RFOUTA- (out), 14 RFOUTB+ (out), 15 RFOUTB- (out), 16 VVCO_2 (power), 17 VVCO (power), 18 AGNDVCO_3 (power), 19 TEMP, 20 VTUNE, 21 AGNDVCO (power), 22 RSET, 23 VCOM (power), 24 VREF (power), 25 LD (out), 26 PDBRF (in), 27 DGND (power), 28 DVDD (power), 29 REFIN, 30 MUXOUT (out), 31 SDGND (power), 32 SDVDD (power), 33 EP (power)

## ADF4355BCPZ
designator *
Phase Locked Loops - PLL Wideband PLL w/ int ultra low noise VCO; Manufacturer: Analog Devices; Manufacturer Part Number: ADF4355BCPZ; Product Status: New Product; PLL: Yes; Input: Clock; Number of Circuits: 1; Ratio - Input:Output: 1:2; Differential - Input:Output: Yes/Yes; Frequency - Max: 6.8GHz; Voltage - Supply: 3.15 V ~ 3.45 V; Supplier 1: Mouser; RoHS: RoHS Compliant; Category: Phase Locked Loops - PLL; Stock 1: 0; Pricing 1: 1=36.53, 5=35.16, 10=34.16, 25=32.59, 50=30.62, 100=29.62, 250=28.07 (EUR); Packaging: Tray; Series: ADF4355; Brand: Analog Devices; RoHS - Mouser: Y; Minimum Order Quantity: 1; Reeling: False; ComponentLink1URL: http://www.mouser.com/ds/2/609/ADF4355-739715.pdf; ComponentLink1Description: http://www.mouser.com/ds/2/609/ADF4355-739715.pdf; Supplier 2: Digi-Key; Stock 2: 0; Pricing 2: 1=36.79, 10=34.318, 100=29.7967, 500=27.33078, 1000=26.3033, 2500=25.9572 (EUR); Type: *; Output: Clock; Divider/Multiplier: Yes/Yes; Operating Temperature: -40°C ~ 85°C; Mounting Type: Surface Mount; Package / Case: 32-WFQFN Exposed Pad, CSP; Supplier Device Package: 32-LFCSP-WQ (5x5); ComponentLink2URL: http://www.analog.com/media/en/technical-documentation/data-sheets/ADF4355.pdf; ComponentLink2Description: http://www.analog.com/media/en/technical-documentation/data-sheets/ADF4355.pdf; Supplier Part Number 1: 584-ADF4355BCPZ; Supplier Part Number 2: ADF4355BCPZ-ND
footprint QFN50P500X500X80_HS-33L- CP-32-12 (QFN, 32-Leads, Body 5,00x5,00mm, Pitch 0,50mm, Thermal Pad 3,65x3,65mm, IPC High Density)
pins: 1 CLK (in), 2 DATA (in), 3 LE (in), 4 CE (in), 5 AVDD (power), 6 VP (power), 7 CPOUT (out), 8 CPGND (power), 9 AGND (power), 10 VRF (power), 11 RFOUTA+, 12 RFOUTA−, 13 AGNDRF (power), 14 RFOUTB+, 15 RFOUTB−, 16 AVDD (power), 17 VVCO (power), 18 AGNDVCO (power), 19 VREGVCO (power), 20 VTUNE, 21 AGNDVCO (power), 22 RSET, 23 VREF (power), 24 VBIAS (power), 25 CREG1 (power), 26 PDBRF (in), 27 DVDD (power), 28 REFINB (in), 29 REFINA (in), 30 MUXOUT (out), 31 SDGND (power), 32 CREG2 (power), 33 EP (power)

## ADG3304BRUZ
designator U?
IC XLATOR 4CH 1.2/5.5V 14-TSSOP; Manufacturer: Analog Devices; Manufacturer Part Number: ADG3304BRUZ; Output Type: 3-State; Supply Current: 1 uA; Propagation Delay Time: 5 ns; Supply Voltage - Max: 5.5 V; Supply Voltage - Min: 1.65 V; Product Status: New at Mouser; Logic Function: Translator, Bidirectional; Number of Bits: 4; Input Type: Logic; Data Rate: 50Mbps; Number of Outputs/Channel: 1; Differential - Input:Output: No/No; Propagation Delay (Max): 6ns; Voltage - Supply: 1.15 V ~ 5.5 V; Supplier 1: Mouser; Supplier Part Number 1: 584-ADG3304BRUZ; RoHS: RoHS Compliant; Category: Translation - Voltage Levels; Stock 1: 3412; Pricing 1: 1=2.25, 10=2.01, 25=1.81, 50=1.70, 100=1.64, 250=1.48, 500=1.33, 1000=1.12, 2500=1.07 (EUR); Package/Case: TSSOP-14; Packaging: Tube; Series: ADG3304; Brand: Analog Devices; Mounting Style: SMD/SMT; Maximum Operating Temperature: + 85 C; Minimum Operating Temperature: - 40 C; Standard Pack Qty: 96; RoHS - Mouser: Y; Minimum Order Quantity: 1; Reeling: False; ComponentLink1URL: http://www.mouser.com/ds/2/609/ADG3304-243194.pdf; ComponentLink1Description: http://www.mouser.com/ds/2/609/ADG3304-243194.pdf; Supplier 2: Digi-Key; Supplier Part Number 2: ADG3304BRUZ-ND; Stock 2: 4295; Pricing 2: 1=2.41, 10=2.152, 96=1.93719, 192=1.765, 288=1.59278, 576=1.42922, 1056=1.20536, 2592=1.14509, 5088=1.10204 (EUR); Number of Channels: 4; Operating Temperature: -40°C ~ 85°C; Package / Case: 14-TSSOP (0.173", 4.40mm Width); Supplier Device Package: 14-TSSOP; Mounting Type: Surface Mount; ComponentLink2URL: http://www.analog.com/static/imported-files/data_sheets/ADG3304.pdf; ComponentLink2Description: http://www.analog.com/static/imported-files/data_sheets/ADG3304.pdf
footprint TSOP65P640X120-14N (TSOP, 14-Leads, Body 5,00x4,40mm, Pitch 0,65mm, IPC Medium Density)
pins: 1 VCCA (power), 2 A1, 3 A2, 4 A3, 5 A4, 6 NC, 7 GND, 8 EN, 9 NC, 10 Y4, 11 Y3, 12 Y2, 13 Y1, 14 VCCY (power)

## ADL5350ACPZ-R7
designator U?
IC MIXER 750MHZ-4GHZ 8LFCSP; Manufacturer: Analog Devices Inc.; RF Type: Cellular, CDMA, GSM; Frequency: 750MHz ~ 4GHz; Noise Figure: 6.5dB; Current - Supply: 16.5mA; Voltage - Supply: 2.7 V ~ 3.5 V; Supplier 1: Digi-Key; Manufacturer Part Number: ADL5350ACPZ-R7; RoHS: RoHS Compliant; Category: RF/IF and RFID; Stock 1: 1344; Pricing 1: 1=5.72, 10=5.142, 100=4.2127, 500=3.58624, 1000=3.02454 (EUR); Packaging: Cut Tape (CT); Part Status: Active; Gain: -; Secondary Attributes: -; Package / Case: 8-VFDFN Exposed Pad, CSP; Supplier Device Package: 8-LFCSP-VD (3x2); ComponentLink1URL: http://www.analog.com/media/en/technical-documentation/evaluation-documentation/ADL5350.pdf; ComponentLink1Description: http://www.analog.com/media/en/technical-documentation/evaluation-documentation/ADL5350.pdf; Supplier Part Number 1: ADL5350ACPZ-R7CT-ND
footprint SON50P200X80_HS-9N (SON, 8-Leads, Body 3,00x2,00mm, Pitch 0,50mm, Thermal Pad 1,74x0,38mm, IPC Medium Density)
pins: 1 RF/IF, 2 GND2, 3 LOIN, 4 NIC, 5 GND1, 6 VPOS, 7 NIC, 8 RF/IF, 9 EP